# EAGLE library part EM-506 (library SparkFun-RF)
EM-506 High Performance GPS Module EM-506 GPS module features high sensitivity, low power and ultra small form factor. This GPS module is powered by SiRF Star IV, it can provide you with superior sensitivity and performance even in urban canyon and dense foliage environment. With SiRF CGEE (Client Generated Extended Ephemeris) technology, it predicts satellite positions for up to 3 days and delivers CGEE-start time of less than 15 seconds under most conditions, without any network assistance. Besides, MicroPower Mode allows GPS module to stay in a hot-start condition nearly continuously while consuming very little power. Product Features: SiRF Star IV high performance GPS Chipset Very high sensitivity (Tracking Sensitivity: -163 dBm) Extremely fast TTFF (Time To First Fix) at low signal level Support UART interface. Built-in LNA(with in CHIP) Compact size (30.0mm x 30.0 mm x 10.7mm) suitable for space-sensitive application Support NMEA 0183 V3.0 (GGA, GSA, GSV, RMC, VTG, GLL, ZDA) Support OSP protocol Support SBAS (WASS, EGNOS, MSAS, GAGAN)
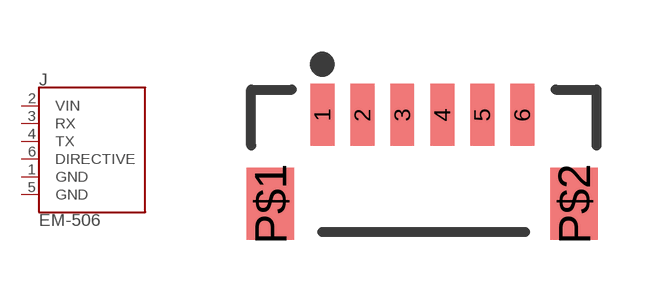
[diagram p67: symbol with the pads of EM406; footprint EM406]

Designator prefix J

## EM-506-VERTICAL (PROD_ID: CONN-08249)  [EM406]
1  GND
2  VIN
3  RX
4  TX
5  GND
6  DIRECTIVE

## Footprint EM406 (pad centres in mm)
6-Pin Vertical JST Connector 1.0mm pitch JST-SH type Common interface for SparkFun GPS modules. Datasheet <http://www.sparkfun.com/datasheets/GPS/EM406-SMDConnector-eSH.pdf>
smd 0.6 x 1.55: 1 0,0; 2 1,0; 3 2,0; 4 3,0; 5 4,0; 6 5,0
smd 1.2 x 1.8: P$1 -1.3,-2.225; P$2 6.3,-2.225